# EAGLE library part ARJ-169 (library RJ45-w-magnetics)
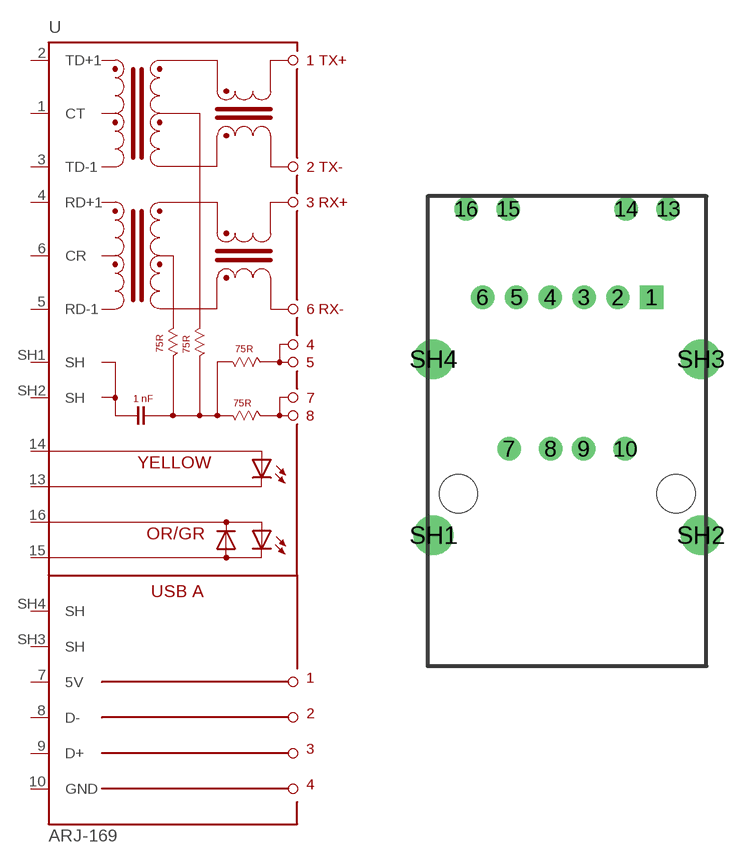
[diagram p0: symbol with the pads of ARJ-169; footprint ARJ-169]

Designator prefix -

## ARJ-169SHLD  [ARJ-169]
1  CT  in
2  TD+1  in
3  TD-1  in
4  RD+1  in
5  RD-1  in
6  CR  in
7  5V
8  D-
9  D+
10  GND
13  C-Y  in
14  A-Y  in
15  A-O_C-G  in
16  C-O_A-G  in
SH1  SH  in
SH2  SH  in
SH3  SH
SH4  SH

## Footprint ARJ-169 (pad centres in mm)
drill 0.9 square: 1 5.1,14.35
drill 0.9: 2 3.06,14.35; 3 1.02,14.35; 4 -1.02,14.35; 5 -3.06,14.35; 6 -5.1,14.35; 7 -3.5,5.21; 8 -1,5.21; 9 1,5.21; 10 3.5,5.21; 13 6.095,19.69; 14 3.555,19.69; 15 -3.555,19.69; 16 -6.095,19.69
drill 1.6: SH1 -8.065,0; SH2 8.065,0; SH3 8.065,10.62; SH4 -8.065,10.62
hole 2.31 at -6.565,2.51
hole 2.31 at 6.565,2.51